# EAGLE library part CHERRY-MX (library gateronrgb)
Cherry MX series keyswitch
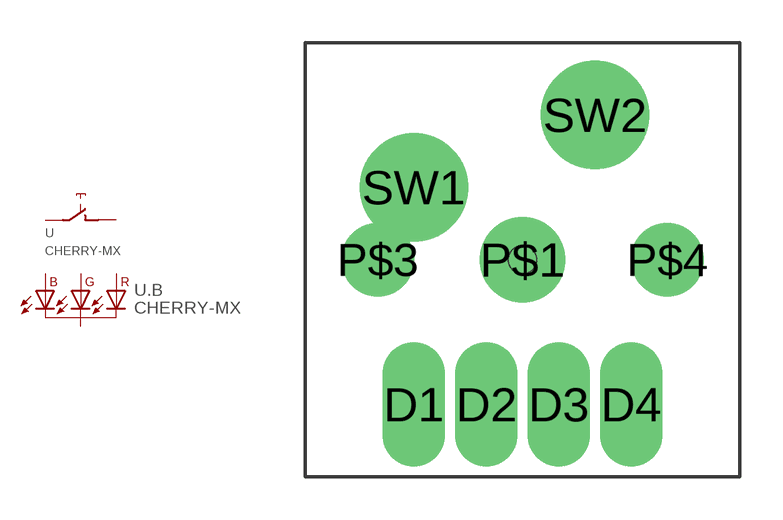
[diagram p0: symbol with the pads of CHERRY-MX-4P; footprint CHERRY-MX-4P]

Designator prefix -; gates .A=CHERRY-MX .B=RGBLED

## CHERRY-MX  [CHERRY-MX-4P]
D1  .B:B  pas
D2  .B:G  pas
D3  .B:RGB-
D4  .B:R  pas
SW1  .A:SW1  pas
SW2  .A:SW2  pas

## Footprint CHERRY-MX-4P (pad centres in mm)
Cherry MX Series Keyswitch footprint with holes for diode or wire bridge
drill 1.016 pad 2.184 long: D1 -3.81,-5.08; D2 -1.27,-5.08; D3 1.27,-5.08; D4 3.81,-5.08
drill 1 pad 3: P$1 0,0
drill 1.714 pad 1.93: P$3 -5.08,0; P$4 5.08,0
drill 1.5 pad 3.81: SW1 -3.81,2.54; SW2 2.54,5.08
hole 1 at 0,0